# Altium schematic symbol library Semiconductors.SchLib: 28 symbols
Pins are listed as number, name and electrical type; pins without a type are passive.

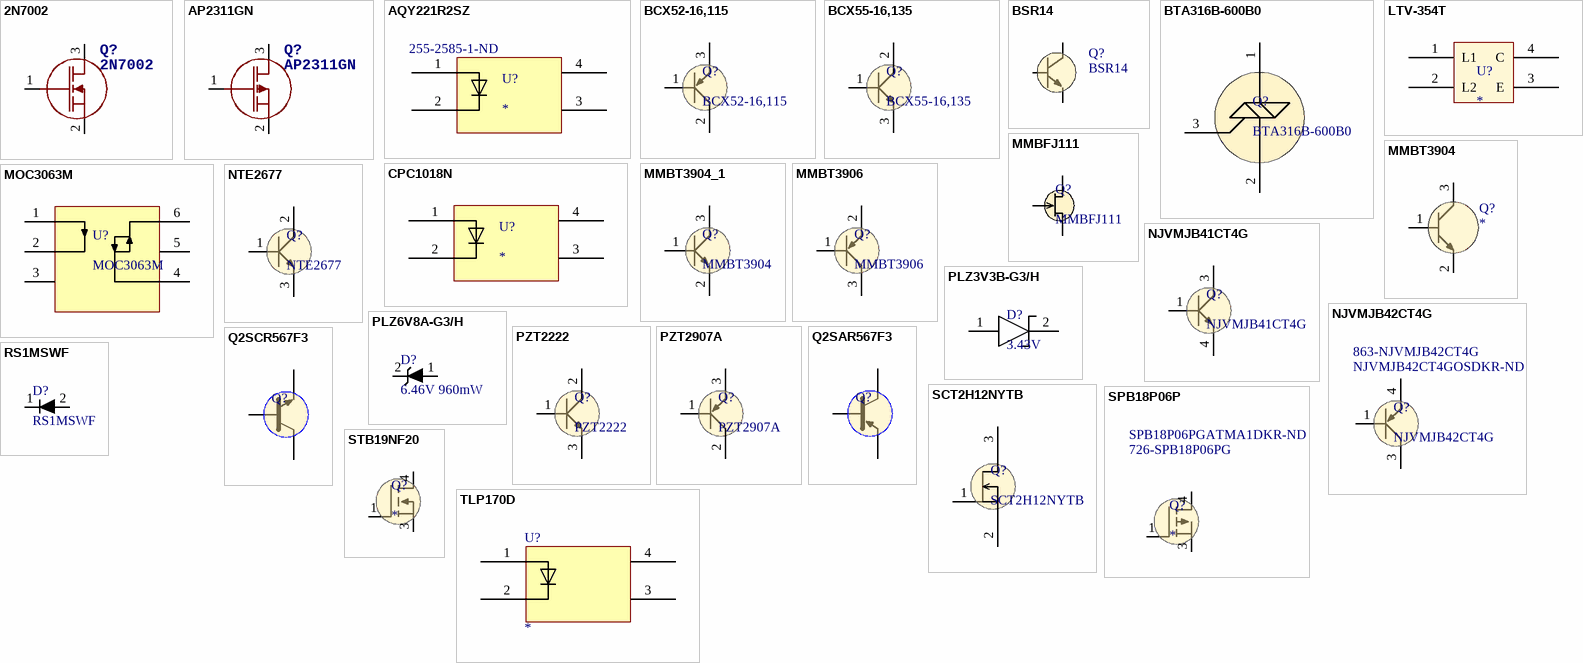
[diagram p0: symbols 2N7002 to TLP170D]

## 2N7002
designator Q?
N Channel 60V 340mA 2.5V @ 250uA 3Ω @ 200mA,4.5V 350mW MOSFET; GateName_1: G$1; SymbolName_1: NMOSFET; DeviceSetName: NTR5103N; LibraryName: custom
footprint SOT23-3 (SOT23, 3-Leads, Body 2.90x2.45mm, Pitch 0.95mm, IPC Low Density)
pins: 1 G, 2 S, 3 D

## AP2311GN
designator Q?
Advanced Power Electronics Corp P-CHANNEL ENHANCEMENT MODE; GateName_1: G$1; SymbolName_1: PMOSFET; DeviceSetName: NTR5105P; LibraryName: custom
footprint SOT23-3 (SOT23, 3-Leads, Body 2.90x2.45mm, Pitch 0.95mm, IPC Low Density)
pins: 1 G, 2 S, 3 D

## AQY221R2SZ
designator U?  Supplier Part Number 1: 255-2585-1-ND
Supplier 1: Digi-Key
footprint SOP-4 (Footprint not found)
pins: 1, 2, 3, 4

## BCX52-16,115
designator Q?
PNP 1A 60V 1.3W 145MHz; Supplier 1: Digi-Key; Supplier Part Number 1: 1727-6209-1-ND
footprint SOT-89-3 (Footprint not found)
pins: 1, 2, 3, 4

## BCX55-16,135
designator Q?
NPN 1A 60V 1.25W 180MHz; Supplier 1: Digi-Key; Supplier Part Number 1: 1727-1964-1-ND
footprint SOT-89-3 (SOT89, 3-Leads, Body 4.50x2.50mm, Pitch 1.50mm, Lead Span 4.1mm, IPC Medium Density)
pins: 1, 2, 3, 4

## BSR14
designator Q?
Supplier 1: Digi-Key; Supplier 2: Mouser; Supplier Part Number 1: BSR14CT-ND; Supplier Part Number 2: 512-BSR14
footprint SOT23-3
pins: 1, 2, 3

## BTA316B-600B0
designator Q?
Supplier 1: Digi-Key; Supplier Part Number 1: 1740-1272-1-ND
footprint D2PAK (Footprint not found)
pins: 1, 2, 3

## CPC1018N
designator U?
footprint SOP-4 (Footprint not found)
pins: 1, 2, 3, 4

## LTV-354T
designator U?
footprint LTV (Footprint not found)
pins: 1 L1, 2 L2, 3 E, 4 C

## MMBFJ111
designator Q?
Supplier 1: Mouser; Supplier 2: Digi-Key; Supplier Part Number 1: 512-MMBFJ111; Supplier Part Number 2: MMBFJ111DKR-ND
footprint SOT23-3
pins: 1, 2, 3

## MMBT3904
designator Q?
Supplier 1: Digi-Key; Supplier Part Number 1: MMBT3904-FDICT-ND
footprint SOT23-3
pins: 1, 2, 3

## MMBT3904_1
designator Q?, comment MMBT3904
BIPOLAR NPN Transistor; Supplier 1: Mouser; Supplier 2: Digi-Key; Supplier Part Number 1: 863-MMBT3904LT1G; Supplier Part Number 2: MMBT3904LT1GOSDKR-ND
footprint SOT-23-3 (SOT23, 3-Leads, Body 2.90x2.45mm, Pitch 0.95mm, IPC Medium Density)
pins: 1, 2, 3

## MMBT3906
designator Q?
BIPOLAR PNP Transistor; Supplier 1: Mouser; Supplier 2: Digi-Key; Supplier Part Number 1: 863-MMBT3906LT1G; Supplier Part Number 2: MMBT3906LT1GOSDKR-ND
footprint SOT-23-3 (SOT23, 3-Leads, Body 2.90x2.45mm, Pitch 0.95mm, IPC Medium Density)
pins: 1, 2, 3

## MOC3063M
designator U?
footprint DIP-6 (Footprint not found)
pins: 1, 2, 3, 4, 5, 6

## NJVMJB41CT4G
designator Q?
BIPOLAR NPN Transistor; Supplier 1: Mouser; Supplier 2: Digi-Key; Supplier Part Number 1: 863-NJVMJB41CT4G; Supplier Part Number 2: NJVMJB41CT4GOSCT-ND
footprint D2PAK-A (D2-PAK, 3-Pads, Body 7.78x8.56mm (max), IPC Medium Density)
pins: 1, 3, 4

## NJVMJB42CT4G
designator Q?  Supplier Part Number 1: NJVMJB42CT4GOSDKR-ND  Supplier Part Number 2: 863-NJVMJB42CT4G
BIPOLAR PNP Transistor; Supplier 1: Digi-Key; Supplier 2: Mouser
footprint D2PAK-A (D2-PAK, 3-Pads, Body 7.78x8.56mm (max), IPC Medium Density)
pins: 1, 3, 4

## NTE2677
designator Q?
Bipolar (BJT) Transistor NPN 800 V 10 A - 70 W Through Hole TO-3P(H)IS; Supplier 1: Digi-Key; Supplier Part Number 1: 2368-NTE2677-ND
footprint TO-3P(H)IS (Footprint not found)
pins: 1, 2, 3, 4

## PLZ3V3B-G3/H
designator D?, comment 3.43V
footprint DO-219AC (Footprint not found)
pins: 1, 2

## PLZ6V8A-G3/H
designator D?, comment 6.46V 960mW
footprint DO-219AC (Footprint not found)
pins: 1, 2

## PZT2222
designator Q?
BIPOLAR NPN Transistor; Supplier 1: Mouser; Supplier 2: Digi-Key; Supplier Part Number 1: 863-PZT2222AT1G; Supplier Part Number 2: PZT2222AT1GOSDKR-ND
footprint SOT-223-4 (SOT223, 4-Leads, Body 6.50x7.00mm (avg), Pitch 2.30mm, IPC Medium Density)
pins: 1, 2, 3, 4

## PZT2907A
designator Q?
BIPOLAR PNP Transistor; Supplier 1: Digi-Key; Supplier 2: Mouser; Supplier Part Number 1: PZT2907AT1GOSDKR-ND; Supplier Part Number 2: 863-PZT2907AT1G
footprint SOT-223-4 (SOT223, 4-Leads, Body 6.50x7.00mm (avg), Pitch 2.30mm, IPC Medium Density)
pins: 1, 2, 3, 4

## Q2SAR567F3
designator Q?  (value not drawn)
PNP 2.5A -120V
simulation model Q2SAR567F3 (Q2SAR567F3 PNP BJT model)
footprint DFN2020-3S (DFN, 3-Leads, Body 2,00x2,00mm, Pitch 1,00mm, IPC Medium Density)
pins: 1 B, 2 E, 3 C

## Q2SCR567F3
designator Q?  (value not drawn)
NPN 2.5A 120V
simulation model Q2SCR567F3 (Q2SCR567F3 NPN BJT model)
footprint DFN2020-3S (DFN, 3-Leads, Body 2,00x2,00mm, Pitch 1,00mm, IPC Medium Density)
pins: 1 B, 2 E, 3 C

## RS1MSWF
designator D?
Supplier 1: Mouser; Supplier 2: Digi-Key; Supplier Part Number 1: 621-RS1MSWFQ-7; Supplier Part Number 2: RS1MSWFQ-7DIDKR-ND
footprint SOD123F (Type B) (SODFL, 2-Leads, Body 1.80x3.50mm, IPC Medium Density)
pins: 1, 2

## SCT2H12NYTB
designator Q?
N-MOSFET 1700V 4A; Supplier 1: Digi-Key; Supplier Part Number 1: SCT2H12NYTBTR-ND
footprint TO-268-2L (Footprint not found)
pins: 1, 2, 3

## SPB18P06P
designator Q?  Supplier Part Number 1: 726-SPB18P06PG  Supplier Part Number 2: SPB18P06PGATMA1DKR-ND
Supplier 1: Mouser; Supplier 2: Digi-Key
footprint D2PAK-A (D2-PAK, 3-Pads, Body 7.78x8.56mm (max), IPC Medium Density)
pins: 1 G, 3 S, 4 D

## STB19NF20
designator Q?
Supplier 1: Mouser; Supplier 2: Digi-Key; Supplier Part Number 1: 511-STB19NF20; Supplier Part Number 2: 497-7941-6-ND
footprint D2PAK-A (D2-PAK, 3-Pads, Body 7.78x8.56mm (max), IPC Medium Density)
pins: 1 G, 3 S, 4 D

## TLP170D
designator U?
Supplier 1: Digi-Key; Supplier 2: RSComponents; Supplier 3: Mouser; Supplier Part Number 1: TLP170D(F)-ND; Supplier Part Number 2: 6956322; Supplier Part Number 3: 757-TLP170DF
footprint SOP-4 (Footprint not found)
pins: 1, 2, 3, 4